# Altium schematic symbol library ECEN403_Parts.SchLib: 7 symbols
Pins are listed as number, name and electrical type; pins without a type are passive.

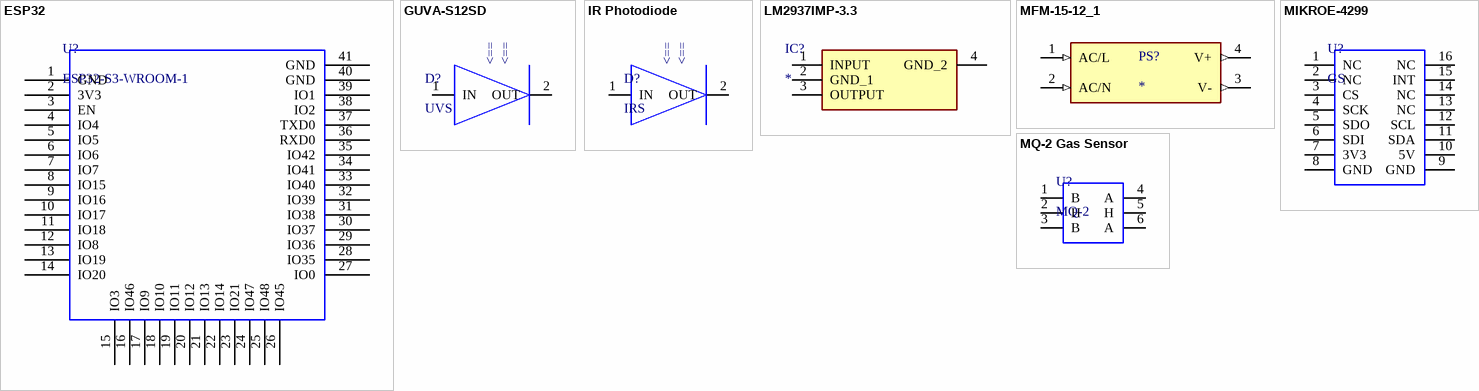
[diagram p0: symbols ESP32 to MQ-2 Gas Sensor]

## ESP32
designator U?, comment ESP32-S3-WROOM-1
footprint ESP32
pins: 1 GND, 2 3V3, 3 EN, 4 IO4, 5 IO5, 6 IO6, 7 IO7, 8 IO15, 9 IO16, 10 IO17, 11 IO18, 12 IO8, 13 IO19, 14 IO20, 15 IO3, 16 IO46, 17 IO9, 18 IO10, 19 IO11, 20 IO12, 21 IO13, 22 IO14, 23 IO21, 24 IO47, 25 IO48, 26 IO45, 27 IO0, 28 IO35, 29 IO36, 30 IO37, 31 IO38, 32 IO39, 33 IO40, 34 IO41, 35 IO42, 36 RXD0, 37 TXD0, 38 IO2, 39 IO1, 40 GND, 41 GND

## GUVA-S12SD
designator D?, comment UVS
footprint UVS SMD
pins: 1 IN, 2 OUT
text: <==

## IR Photodiode
designator D?, comment IRS
footprint IRS Thruhole
pins: 1 IN, 2 OUT
text: <==

## LM2937IMP-3.3
designator IC?
Integrated Circuit; Manufacturer_Name: Texas Instruments; Manufacturer_Part_Number: LM2937IMP-3.3; Datasheet Link: https://www.ti.com/lit/gpn/LM2937; Height: 1.8mm; Mouser Part Number: 926-LM2937IMP-33; Mouser Price/Stock: https://www.mouser.co.uk/ProductDetail/Texas-Instruments/LM2937IMP-3.3?qs=X1J7HmVL2ZHQ6GEvMvFiRA%3D%3D; Arrow Part Number: LM2937IMP-3.3; Arrow Price/Stock: https://www.arrow.com/en/products/lm2937imp-3.3/texas-instruments?region=nac
footprint SOT230P700X180-4N
pins: 1 INPUT, 2 GND_1, 3 OUTPUT, 4 GND_2

## MFM-15-12_1
designator PS?
Open Frame AC DC Converters 1 Uitgang 12V - - - 1.25A 80 ~ 264 VAC Input; MF: MEAN WELL; MP: MFM-15-12; Package: DIP-4 Mean-Well USA, Inc.; Price: None; Check_prices: https://www.snapeda.com/parts/MFM-15-12/MEAN+WELL+USA+Inc./view-part/?ref=eda; Value: *; SnapEDA_Link: https://www.snapeda.com/parts/MFM-15-12/MEAN+WELL+USA+Inc./view-part/?ref=snap; Availability: In Stock; Purchase-URL: https://pricing.snapeda.com/search?q=MFM-15-12&ref=eda
footprint CONV_MFM-15-12
footprint CONV_MFM-15-12
pins: 1 AC/L (in), 2 AC/N (in), 3 V- (out), 4 V+ (out)

## MIKROE-4299
designator U?, comment GS
footprint GS DIP Socket
pins: 1 NC, 2 NC, 3 CS, 4 SCK, 5 SDO, 6 SDI, 7 3V3, 8 GND, 9 GND, 10 5V, 11 SDA, 12 SCL, 13 NC, 14 NC, 15 INT, 16 NC

## MQ-2 Gas Sensor
designator U?, comment MQ-2
footprint MQ-2 Thruhole
pins: 1 B, 2 H, 3 B, 4 A, 5 H, 6 A